# Altium schematic symbol library Transformers.SchLib: 1 symbol
Pins are listed as number, name and electrical type; pins without a type are passive.

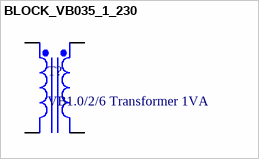
[diagram p0: symbol BLOCK_VB035_1_230]

## BLOCK_VB035_1_230
designator T?, comment VB1.0/2/6 Transformer 1VA
240V to 6v transformer, 1W; PartNumber: VB1.0/2/6 Transformer 1VA; Supplier 1: Farnell; Supplier Part Number 1: 1131622
footprint BLOCK_VB35
pins: 1 Pri+, 2 Pri-, 3 Sec+, 4 Sec-